# EAGLE library part SDCARD_MICRO (library motorController)
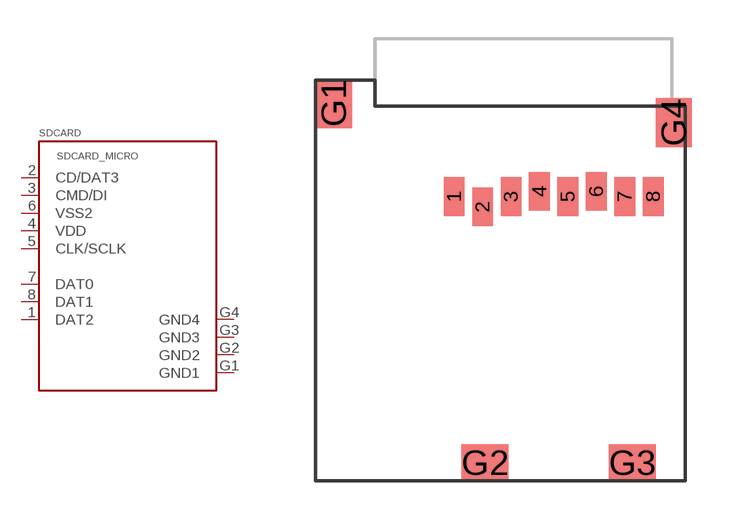
[diagram p13: symbol with the pads of MICROSD; footprint MICROSD]

Designator prefix SDCARD

## SDCARD_MICRO  [MICROSD]
1  DAT2
2  CD/DAT3
3  CMD/DI
4  VDD  pwr
5  CLK/SCLK
6  VSS2  pwr
7  DAT0
8  DAT1
G1  GND1  pwr
G2  GND2  pwr
G3  GND3  pwr
G4  GND4  pwr

## Footprint MICROSD (pad centres in mm)
smd 0.8 x 1.5: 1 -8.94,10.7; 2 -7.84,10.3; 3 -6.74,10.7; 4 -5.64,10.9; 5 -4.54,10.7; 6 -3.44,10.9; 7 -2.34,10.7; 8 -1.24,10.7
smd 1.4 x 1.9: G1 -13.6,14.3; G4 -0.45,13.55
smd 1.8 x 1.4: G2 -7.75,0.4; G3 -2.05,0.4